# EAGLE library part LTC3586EUFE-3#TRPBF (library LTC3586EUFE-3_TRPBF)
None
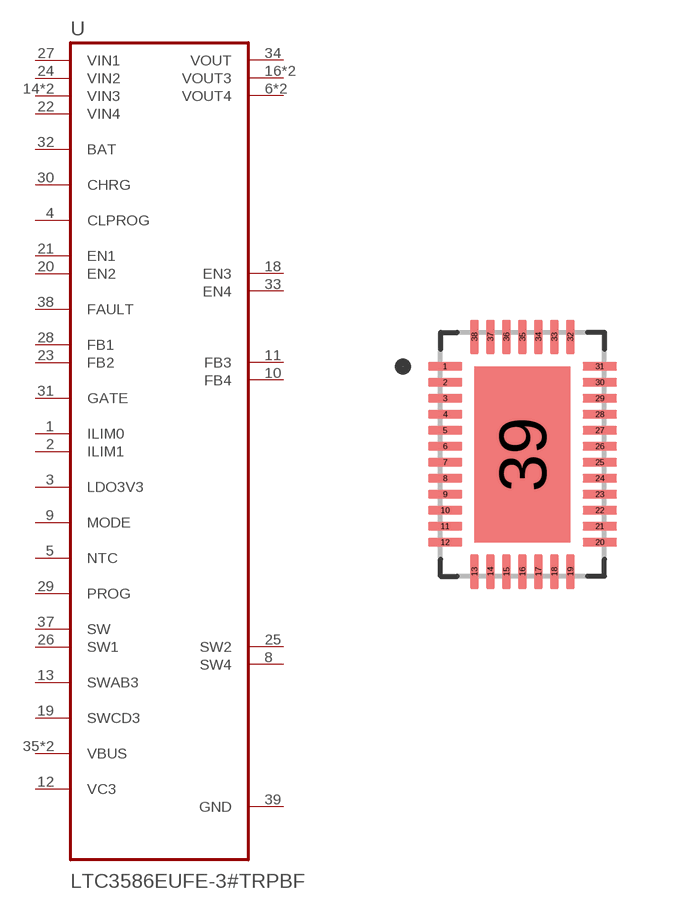
[diagram p0: symbol with the pads of QFN40P600X400X80-39N; footprint QFN40P600X400X80-39N]

Designator prefix U

## LTC3586EUFE-3#TRPBF (AVAILABILITY: Unavailable; DESCRIPTION: USB Power Manager 4.35V to 5.5V 38-Pin QFN EP T/R; MF: Analog Devices; MP: LTC3586EUFE-3#TRPBF; PACKAGE: QFN -38 Analog Devices; PRICE: None)  [QFN40P600X400X80-39N]
1  ILIM0
2  ILIM1
3  LDO3V3
4  CLPROG
5  NTC
6  VOUT4  out
7  VOUT4  out
8  SW4
9  MODE
10  FB4
11  FB3
12  VC3
13  SWAB3
14  VIN3  in
15  VIN3  in
16  VOUT3  out
17  VOUT3  out
18  EN3
19  SWCD3
20  EN2
21  EN1
22  VIN4  in
23  FB2
24  VIN2  in
25  SW2
26  SW1
27  VIN1  in
28  FB1
29  PROG
30  CHRG
31  GATE
32  BAT
33  EN4
34  VOUT  out
35  VBUS
36  VBUS
37  SW
38  FAULT
39  GND  pwr

## Footprint QFN40P600X400X80-39N (pad centres in mm)
smd 0.86 x 0.22: 1 -1.935,2.2; 2 -1.935,1.8; 3 -1.935,1.4; 4 -1.935,1; 5 -1.935,0.6; 6 -1.935,0.2; 7 -1.935,-0.2; 8 -1.935,-0.6; 9 -1.935,-1; 10 -1.935,-1.4; 11 -1.935,-1.8; 12 -1.935,-2.2; 20 1.935,-2.2; 21 1.935,-1.8; 22 1.935,-1.4; 23 1.935,-1; 24 1.935,-0.6; 25 1.935,-0.2; 26 1.935,0.2; 27 1.935,0.6; 28 1.935,1; 29 1.935,1.4; 30 1.935,1.8; 31 1.935,2.2
smd 0.22 x 0.86: 13 -1.2,-2.935; 14 -0.8,-2.935; 15 -0.4,-2.935; 16 0,-2.935; 17 0.4,-2.935; 18 0.8,-2.935; 19 1.2,-2.935; 32 1.2,2.935; 33 0.8,2.935; 34 0.4,2.935; 35 0,2.935; 36 -0.4,2.935; 37 -0.8,2.935; 38 -1.2,2.935
smd 2.4 x 4.4: 39 0,0